# Altium schematic symbol library Schlib.SchLib: 49 symbols
Pins are listed as number, name and electrical type; pins without a type are passive.

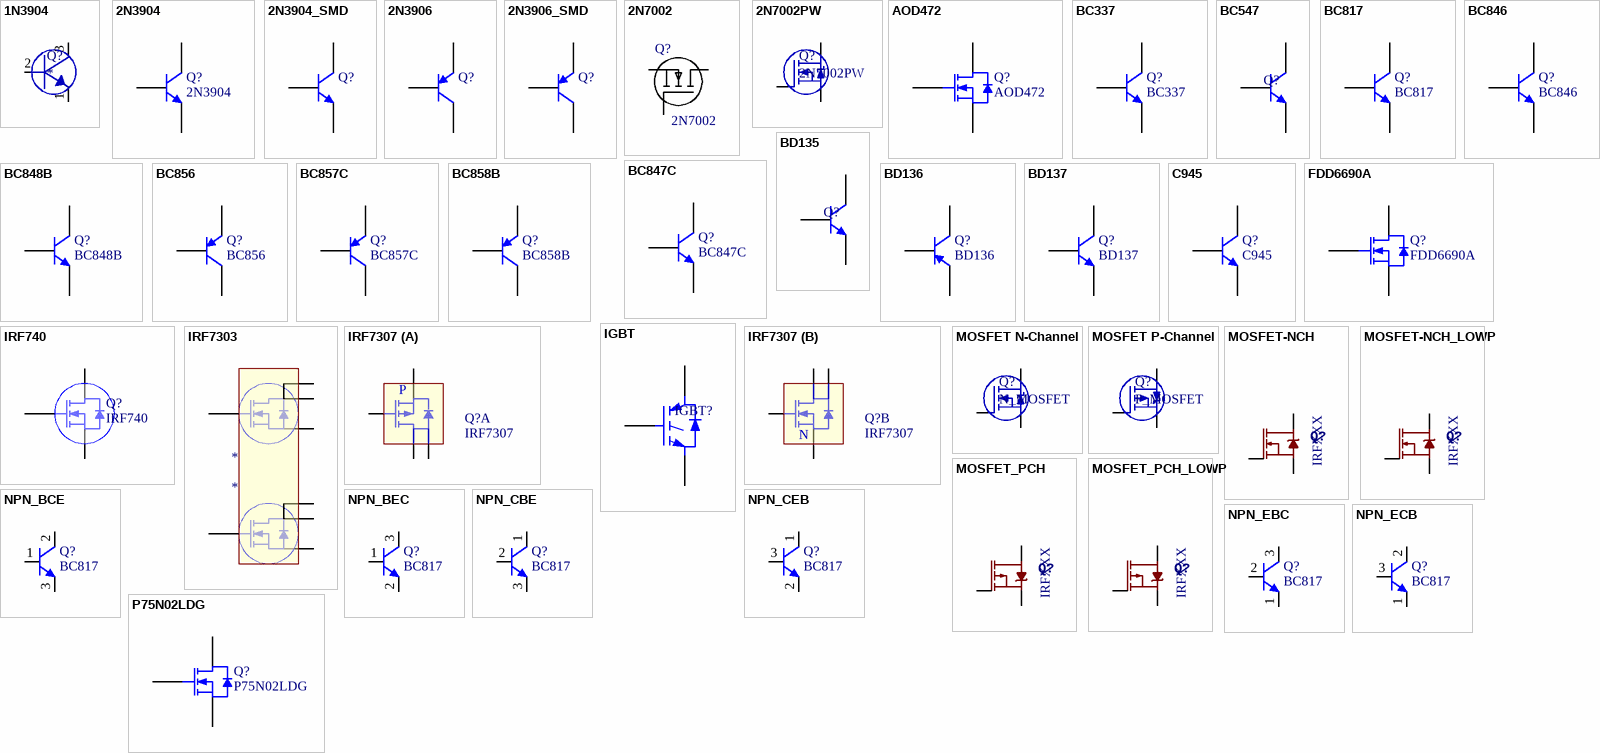
[diagram p0: symbols 1N3904 to P75N02LDG]

## 1N3904
designator Q?
1N3904 NPN Transistor
footprint TO92-2.54 (TO92, 2.54 pitch)
pins: 1, 2, 3

## 2N3904
designator Q?
NPN General Purpose Amplifier
footprint _TO92
pins: 1 E, 2 B, 3 C

## 2N3904_SMD
designator Q?
NPN General Purpose Amplifier
footprint _SOT23 (SOT23, 3-Leads, Body 2.9x1.3mm, Pitch 0.95mm, Lead Span 2.3mm - Reverse Pinning, IPC Medium Density)
pins: 1 B, 2 E, 3 C

## 2N3906
designator Q?
PNP General Purpose Amplifier
footprint _TO92
pins: 1 E, 2 B, 3 C

## 2N3906_SMD
designator Q?
PNP General Purpose Amplifier
footprint _SOT23 (SOT23, 3-Leads, Body 2.9x1.3mm, Pitch 0.95mm, Lead Span 2.3mm - Reverse Pinning, IPC Medium Density)
pins: 1 B, 2 E, 3 C

## 2N7002
designator Q?
N CHANNEL MOSFET 2N7002 SOT23; Manufacturer: Fairchild Semiconductor; Drain to Source Voltage (Vdss): 60V; Vgs(th) (Max) @ Id: 2.5V @ 250µA; Power - Max: 200mW; Current - Continuous Drain (Id) @ 25° C: 115mA; Rds On (Max) @ Id, Vgs: 7.5 Ohm @ 500mA, 10V; FET Type: MOSFET N-Channel, Metal Oxide; FET Feature: Logic Level Gate; Input Capacitance (Ciss) @ Vds: 50pF @ 25V; Reel: Q2; Supplier 1: Digi-Key; Supplier Part Number 1: 2N7002NTR-ND; Package / Case: SOT-23-3, TO-236-3, Micro3™, SSD3, SST3; RoHS: RoHS Compliant; Mounting Type: Surface Mount; Packaging: Tape & Reel (TR); Gate Charge (Qg) @ Vgs: -; Supplier Part Number: 2N7002NTR-ND; Supplier: Digi-Key; Category: Discrete Semiconductor Products; Manufacturer Part Number: 2N7002
footprint SOT23-GDS
pins: D, G, S

## 2N7002PW
designator Q?
MOSFET 60V 0.3A N-CHANNEL TRENCH MOSFET; Manufacturer: NXP Semiconductors; Manufacturer Part Number: 2N7002PW,115; Configuration: Single; Continuous Drain Current: 310 mA; Rds On: 1 Ohms; Fall Time: 4 ns; Pd - Power Dissipation: 260 mW; Qg - Gate Charge: 0.6 nC; Typical Turn-Off Delay Time: 10 ns; Vgs - Gate-Source Breakdown Voltage: 20 V; Supplier 1: Mouser; RoHS: RoHS Compliant; Category: MOSFET; Stock 1: 55183; Pricing 1: 1=0.256, 10=0.170, 100=0.071, 1000=0.049, 3000=0.037, 9000=0.031, 24000=0.030, 45000=0.027, 99000=0.024 (EUR); Package/Case: SOT-323; Packaging: Reel; Brand: NXP Semiconductors; Drain-Source Breakdown Voltage: 60 V; Mounting Style: SMD/SMT; Transistor Polarity: N-Channel; Maximum Operating Temperature: + 150 C; Minimum Operating Temperature: - 55 C; Rise Time: 4 ns; Standard Pack Qty: 3000; RoHS - Mouser: Y; Minimum Order Quantity: 1; Reeling: True; ComponentLink1URL: http://www.mouser.com/ds/2/302/2N7002PW-99426.pdf; ComponentLink1Description: http://www.mouser.com/ds/2/302/2N7002PW-99426.pdf; Supplier Part Number 1: 771-2N7002PW-115
footprint SOT323 (SOT323, 3 pins)
pins: 1 G, 2 S, 3 D

## AOD472
designator Q?
N-channel MOSFET; Note: Pin 2 is trimmed (and not drawn) and is electrically connected to Drain; Published: 2017-1-12; DatasheetVersion: 2017-1-12; PackageVersion: 2017-1-12; PackageReference: D-PAK TO-252; Publisher: Abbas Basereh; PackageDescription: D-PAK TO-252; ComponentLink1Description: Manufacturer Link; ComponentLink2Description: Datasheet; ComponentLink2URL: http://www.roboeq.ir/files/id/2912/name/aod472.pdf/
footprint TO252-3L (D-PAK, 3-Pads, Body 6.2x6.7mm (max), IPC High Density)
footprint TO252-3M (D-PAK, 3-Pads, Body 6.2x6.7mm (max), IPC Low Density)
footprint TO252-3N (D-PAK, 3-Pads, Body 6.2x6.7mm (max), IPC Medium Density)
pins: 1 G, 3 S, 4 D

## BC337
designator Q?
45 V, 500 mA NPN general-purpose transistors; Published: 2017-2-8; LatestRevisionDate: 2017; LatestRevisionNote: IPC-7351 Footprint Added.; DatasheetVersion: 2017; PackageVersion: 2017-2-8; PackageReference: SOT23; Publisher: Abbas Basereh; PackageDescription: 3-Pin SOT-23 Package 0.95 mm Pitch, 2.3 mm Lead Span; ComponentLink1Description: Manufacturer Link; ComponentLink1URL: http://www.nxp.com/; ComponentLink2Description: Datasheet; ComponentLink2URL: http://www.nxp.com/
footprint SOT23_N (SOT23, 3-Leads, Body 2.9x1.3mm, Pitch 0.95mm, Lead Span 2.3mm, IPC Medium Density)
footprint SOT23_L (SOT23, 3-Leads, Body 2.9x1.3mm, Pitch 0.95mm, Lead Span 2.3mm, IPC High Density)
footprint SOT23_M (SOT23, 3-Leads, Body 2.9x1.3mm, Pitch 0.95mm, Lead Span 2.3mm, IPC Low Density)
pins: 1 B, 2 E, 3 C

## BC547
designator Q?  (value not drawn)
NPN Transistor; Designer: Abbas Basereh; Desc.: Plastic Medium-Power. Silicon NPN Transistors; Data: 27-12-2016
footprint TO-92 BENT (DESIGNER :ABBAS BASEREH)
footprint TO-92 STR (DESIGNER :ABBAS BASEREH)
footprint TO-92 CF (DESIGNER :ABBAS BASEREH)
pins: 1 C, 2 B, 3 E
1 alternate drawing of the same symbol

## BC817
designator Q?
45 V, 500 mA NPN general-purpose transistors; Published: 2017-2-8; LatestRevisionDate: 2017; LatestRevisionNote: IPC-7351 Footprint Added.; DatasheetVersion: 2017; PackageVersion: 2017-2-8; PackageReference: SOT23; Publisher: Abbas Basereh; PackageDescription: 3-Pin SOT-23 Package 0.95 mm Pitch, 2.3 mm Lead Span; ComponentLink1Description: Manufacturer Link; ComponentLink1URL: http://www.nxp.com/; ComponentLink2Description: Datasheet; ComponentLink2URL: http://www.nxp.com/
footprint SOT23_N (SOT23, 3-Leads, Body 2.9x1.3mm, Pitch 0.95mm, Lead Span 2.3mm, IPC Medium Density)
footprint SOT23_L (SOT23, 3-Leads, Body 2.9x1.3mm, Pitch 0.95mm, Lead Span 2.3mm, IPC High Density)
footprint SOT23_M (SOT23, 3-Leads, Body 2.9x1.3mm, Pitch 0.95mm, Lead Span 2.3mm, IPC Low Density)
pins: 1 B, 2 E, 3 C

## BC846
designator Q?
NPN General-purpose Transistor; Published: 2017-1-6; LatestRevisionDate: 12-Dec-2006; LatestRevisionNote: IPC-7351 Footprint Added.; DatasheetVersion: 4-Feb-2002; PackageVersion: 2017-1-6; PackageReference: SOT23; Publisher: Abbas Basereh; PackageDescription: 3-Pin SOT-23 Package 0.95 mm Pitch, 2.3 mm Lead Span; ComponentLink1Description: Manufacturer Link; ComponentLink1URL: http://www.semiconductors.philips.com/; ComponentLink2Description: Datasheet; ComponentLink2URL: http://www.semiconductors.philips.com/acrobat/datasheets/BC846_BC847_BC848_5.pdf
footprint SOT23_N (SOT23, 3-Leads, Body 2.9x1.3mm, Pitch 0.95mm, Lead Span 2.3mm, IPC Medium Density)
footprint SOT23_L (SOT23, 3-Leads, Body 2.9x1.3mm, Pitch 0.95mm, Lead Span 2.3mm, IPC High Density)
footprint SOT23_M (SOT23, 3-Leads, Body 2.9x1.3mm, Pitch 0.95mm, Lead Span 2.3mm, IPC Low Density)
simulation model QBC846 (NPN)
signal-integrity model BC846
pins: 1 B, 2 E, 3 C

## BC847C
designator Q?
NPN General-purpose Transistor; Published: 2017-1-6; LatestRevisionDate: 12-Dec-2006; LatestRevisionNote: IPC-7351 Footprint Added.; DatasheetVersion: 4-Feb-2002; PackageVersion: 2017-1-6; PackageReference: SOT23; Publisher: Abbas Basereh; PackageDescription: 3-Pin SOT-23 Package 0.95 mm Pitch, 2.3 mm Lead Span; ComponentLink1Description: Manufacturer Link; ComponentLink1URL: http://www.semiconductors.philips.com/; ComponentLink2Description: Datasheet; ComponentLink2URL: http://www.semiconductors.philips.com/acrobat/datasheets/BC846_BC847_BC848_5.pdf
footprint SOT23_N (SOT23, 3-Leads, Body 2.9x1.3mm, Pitch 0.95mm, Lead Span 2.3mm, IPC Medium Density)
footprint SOT23_L (SOT23, 3-Leads, Body 2.9x1.3mm, Pitch 0.95mm, Lead Span 2.3mm, IPC High Density)
footprint SOT23_M (SOT23, 3-Leads, Body 2.9x1.3mm, Pitch 0.95mm, Lead Span 2.3mm, IPC Low Density)
simulation model QBC847C (NPN)
signal-integrity model BC847C
pins: 1 B, 2 E, 3 C

## BC848B
designator Q?
NPN General-purpose Transistor; Published: 2017-1-6; LatestRevisionDate: 12-Dec-2006; LatestRevisionNote: IPC-7351 Footprint Added.; DatasheetVersion: 4-Feb-2002; PackageVersion: 2017-1-6; PackageReference: SOT23; Publisher: Abbas Basereh; PackageDescription: 3-Pin SOT-23 Package 0.95 mm Pitch, 2.3 mm Lead Span; ComponentLink1Description: Manufacturer Link; ComponentLink1URL: http://www.semiconductors.philips.com/; ComponentLink2Description: Datasheet; ComponentLink2URL: http://www.semiconductors.philips.com/acrobat/datasheets/BC846_BC847_BC848_5.pdf
footprint SOT23_N (SOT23, 3-Leads, Body 2.9x1.3mm, Pitch 0.95mm, Lead Span 2.3mm, IPC Medium Density)
footprint SOT23_L (SOT23, 3-Leads, Body 2.9x1.3mm, Pitch 0.95mm, Lead Span 2.3mm, IPC High Density)
footprint SOT23_M (SOT23, 3-Leads, Body 2.9x1.3mm, Pitch 0.95mm, Lead Span 2.3mm, IPC Low Density)
simulation model QBC848B (NPN)
signal-integrity model BC848B
pins: 1 B, 2 E, 3 C

## BC856
designator Q?
PNP General-purpose Transistor; Published: 2017-1-6; LatestRevisionDate: 12-Dec-2006; LatestRevisionNote: IPC-7351 Footprint Added.; DatasheetVersion: 4-Feb-2002; PackageVersion: 2017-1-6; PackageReference: SOT23; Publisher: Abbas Basereh; PackageDescription: 3-Pin SOT-23 Package 0.95 mm Pitch, 2.3 mm Lead Span; ComponentLink1Description: Manufacturer Link; ComponentLink1URL: http://www.semiconductors.philips.com/; ComponentLink2Description: Datasheet; ComponentLink2URL: http://www.semiconductors.philips.com/acrobat/datasheets/BC856_BC857_BC858_6.pdf
footprint SOT23_N (SOT23, 3-Leads, Body 2.9x1.3mm, Pitch 0.95mm, Lead Span 2.3mm, IPC Medium Density)
footprint SOT23_L (SOT23, 3-Leads, Body 2.9x1.3mm, Pitch 0.95mm, Lead Span 2.3mm, IPC High Density)
footprint SOT23_M (SOT23, 3-Leads, Body 2.9x1.3mm, Pitch 0.95mm, Lead Span 2.3mm, IPC Low Density)
simulation model QBC856 (PNP)
signal-integrity model BC856
pins: 1 B, 2 E, 3 C

## BC857C
designator Q?
PNP General-purpose Transistor; Published: 2017-1-6; LatestRevisionDate: 12-Dec-2006; LatestRevisionNote: IPC-7351 Footprint Added.; DatasheetVersion: 4-Feb-2002; PackageVersion: 2017-1-6; PackageReference: SOT23; Publisher: Abbas Basereh; PackageDescription: 3-Pin SOT-23 Package 0.95 mm Pitch, 2.3 mm Lead Span; ComponentLink1Description: Manufacturer Link; ComponentLink1URL: http://www.semiconductors.philips.com/; ComponentLink2Description: Datasheet; ComponentLink2URL: http://www.semiconductors.philips.com/acrobat/datasheets/BC856_BC857_BC858_6.pdf
footprint SOT23_N (SOT23, 3-Leads, Body 2.9x1.3mm, Pitch 0.95mm, Lead Span 2.3mm, IPC Medium Density)
footprint SOT23_L (SOT23, 3-Leads, Body 2.9x1.3mm, Pitch 0.95mm, Lead Span 2.3mm, IPC High Density)
footprint SOT23_M (SOT23, 3-Leads, Body 2.9x1.3mm, Pitch 0.95mm, Lead Span 2.3mm, IPC Low Density)
simulation model QBC857C (PNP)
signal-integrity model BC857C
pins: 1 B, 2 E, 3 C

## BC858B
designator Q?
PNP General-purpose Transistor; Published: 2017-1-6; LatestRevisionDate: 12-Dec-2006; LatestRevisionNote: IPC-7351 Footprint Added.; DatasheetVersion: 4-Feb-2002; PackageVersion: 2017-1-6; PackageReference: SOT23; Publisher: Abbas Basereh; PackageDescription: 3-Pin SOT-23 Package 0.95 mm Pitch, 2.3 mm Lead Span; ComponentLink1Description: Manufacturer Link; ComponentLink1URL: http://www.semiconductors.philips.com/; ComponentLink2Description: Datasheet; ComponentLink2URL: http://www.semiconductors.philips.com/acrobat/datasheets/BC856_BC857_BC858_6.pdf
footprint SOT23_N (SOT23, 3-Leads, Body 2.9x1.3mm, Pitch 0.95mm, Lead Span 2.3mm, IPC Medium Density)
footprint SOT23_L (SOT23, 3-Leads, Body 2.9x1.3mm, Pitch 0.95mm, Lead Span 2.3mm, IPC High Density)
footprint SOT23_M (SOT23, 3-Leads, Body 2.9x1.3mm, Pitch 0.95mm, Lead Span 2.3mm, IPC Low Density)
pins: 1 B, 2 E, 3 C

## BD135
designator Q?  (value not drawn)
NPN Transistor; Designer: Abbas Basereh; Desc.: Plastic Medium-Power. Silicon NPN Transistors; Data: 16-12-2016
footprint TO-126 (SOT32) Gold PCB
footprint TO-126 (SOT32) Gold PCB With HatSink (-Design:Abbas Basereh)
pins: 1 E, 2 C, 3 B
1 alternate drawing of the same symbol

## BD136
designator Q?
Darlington transistor
footprint My_TO126
pins: B, C, E

## BD137
designator Q?
Darlington transistor
footprint My_TO126
pins: B, C, E

## C945
designator Q?
NPN Silicon Epitaxial Planar Transistor; Published: 2017-2-8; LatestRevisionDate: 2017; LatestRevisionNote: IPC-7351 Footprint Added.; DatasheetVersion: 2017; PackageVersion: 2017-2-8; PackageReference: SOT23; Publisher: Abbas Basereh; PackageDescription: 3-Pin SOT-23 Package 0.95 mm Pitch, 2.3 mm Lead Span; ComponentLink1Description: Manufacturer Link; ComponentLink1URL: http://www.taitroncomponents.com/; ComponentLink2Description: Datasheet; ComponentLink2URL: http://www.taitroncomponents.com/
footprint SOT23_N (SOT23, 3-Leads, Body 2.9x1.3mm, Pitch 0.95mm, Lead Span 2.3mm, IPC Medium Density)
footprint SOT23_L (SOT23, 3-Leads, Body 2.9x1.3mm, Pitch 0.95mm, Lead Span 2.3mm, IPC High Density)
footprint SOT23_M (SOT23, 3-Leads, Body 2.9x1.3mm, Pitch 0.95mm, Lead Span 2.3mm, IPC Low Density)
pins: 1 B, 2 E, 3 C

## FDD6690A
designator Q?
N-channel MOSFET; Note: Pin 2 is trimmed (and not drawn) and is electrically connected to Drain; Published: 2017-1-6; DatasheetVersion: 2017-1-6; PackageVersion: 2017-1-6; PackageReference: D-PAK TO-252; Publisher: Abbas Basereh; PackageDescription: D-PAK TO-252; ComponentLink1Description: Manufacturer Link; ComponentLink2Description: Datasheet; ComponentLink2URL: http://www.roboeq.ir/files/id/2900/name/FDD6690.pdf/
footprint TO252-3L (D-PAK, 3-Pads, Body 6.2x6.7mm (max), IPC High Density)
footprint TO252-3M (D-PAK, 3-Pads, Body 6.2x6.7mm (max), IPC Low Density)
footprint TO252-3N (D-PAK, 3-Pads, Body 6.2x6.7mm (max), IPC Medium Density)
pins: 1 G, 3 S, 4 D

## IGBT
designator IGBT?
footprint _TO3P
pins: 1 G, 2 C, 3 E

## IRF740
designator Q?
MOSFET N-CH 400V 10A TO-220AB; Published: 2017-1-12; DatasheetVersion: 2017-1-12; PackageVersion: 2017-1-12; PackageReference: TO-220AB; Publisher: Abbas Basereh; PackageDescription: MOSFET N-CH 400V 10A TO-220AB; ComponentLink1Description: http://www.digikey.com/products/en/discrete-semiconductor-products/19; ComponentLink1URL: http://www.digikey.com/product-detail/en/vishay-siliconix/IRF740PBF/IRF740PBF-ND/812037; ComponentLink2Description: Datasheet; ComponentLink2URL: http://www.roboeq.ir/files/id/1101/name/IRF740A.pdf
footprint TO-220 AB (Epoxy meets UL94, V0-Design:Abbas Basereh)
footprint TO-220 AB S (Epoxy meets UL94, V0-Design:Abbas Basereh)
footprint TO-220 AB WITH HEAT SINK (Epoxy meets UL94, V0-Design:Abbas Basereh)
footprint TO-220 AB WITH HEAT SINK ASM (-Design:Abbas Basereh)
footprint TO-220 AB with heatsink ya25 (Epoxy meets UL94, V0-Design:Abbas Basereh)
pins: 1 G, 2 D (power), 3 S (power)

## IRF7303
designator *
footprint SO-8N (SOIC, 8-Leads, Body 4/89x3/90mm, Pitch 1/27mm, IPC Medium Density designer:abbas basereh)
pins: 1 S1 (power), 2 G1, 3 S2 (power), 4 G2, 5 D2 (power), 6 D2 (power), 7 D1 (power), 8 D1 (power)

## IRF7307
designator Q?
Dual N and P Channel Mosfet; Published: 2017-2-27; DatasheetVersion: 2017-2-27; PackageVersion: 2017-2-27; PackageReference: SO-8N; Publisher: Abbas Basereh; PackageDescription: SOIC, 8-Leads, Body 4/89x3/90mm, Pitch 1/27mm, IPC Medium Density designer:abbas basereh; ComponentLink1Description: Manufacturer Link; ComponentLink1URL: http://www.irf.com/; ComponentLink2Description: Dual N and P Channel Mosfet; ComponentLink2URL: http://www.roboeq.ir/files/id/2730/name/irf7307.pdf/
footprint SO-8N (SOIC, 8-Leads, Body 4/89x3/90mm, Pitch 1/27mm, IPC Medium Density designer:abbas basereh)
part A pins: 3 S2, 4 G2, 5 D2, 6 D2
part B pins: 1 S1, 2 G1, 7 D1, 8 1
part A text: P
part B text: N

## MOSFET N-Channel
designator Q?, comment N_MOSFET
Generic N-Channel MOSFET
footprint SOT323 (SOT323, 3 pins)
pins: 1 G, 2 S, 3 D

## MOSFET P-Channel
designator Q?, comment P_MOSFET
Generic P-Channel MOSFET
footprint SOT323 (SOT323, 3 pins)
pins: 1 G, 2 S, 3 D

## MOSFET-NCH
designator Q?  value IRFXXX  (hidden comment: MOSFET-NCH)
footprint _TO3P
footprint _TO220 (TO, Thru-Hole, Vertical, Heatsink Mounted; 3 In-Line Leads; Pitch 2.54 mm)
footprint _TO220-ALT
footprint _TO252 (D-PAK, 4-Leads, Body 6.1x6.5mm, Pitch 2.28mm, Lead Span 9.7mm, IPC Medium Density)
pins: 1 G, 2 D, 3 S

## MOSFET-NCH_LOWP
designator Q?  value IRFXXX  (hidden comment: MOSFET-NCH_LOWP)
footprint _SOT23 (SOT23, 3-Leads, Body 2.9x1.3mm, Pitch 0.95mm, Lead Span 2.3mm - Reverse Pinning, IPC Medium Density)
pins: 1 G, 2 S, 3 D

## MOSFET_PCH
designator Q?  value IRFXXX  (hidden comment: MOSFET_PCH)
footprint _TO220 (TO, Thru-Hole, Vertical, Heatsink Mounted; 3 In-Line Leads; Pitch 2.54 mm)
footprint _TO220-ALT
footprint _TO3P
footprint _TO252 (D-PAK, 4-Leads, Body 6.1x6.5mm, Pitch 2.28mm, Lead Span 9.7mm, IPC Medium Density)
pins: 1 G, 2 D, 3 S

## MOSFET_PCH_LOWP
designator Q?  value IRFXXX
footprint _SOT23 (SOT23, 3-Leads, Body 2.9x1.3mm, Pitch 0.95mm, Lead Span 2.3mm - Reverse Pinning, IPC Medium Density)
pins: 1 G, 2 S, 3 D

## NPN_BCE
designator Q?, comment BC817
NPN Bipolar Transistor; Designer: Eng. Saeid Jorablo; Company: SJ Libraries; Published: 8-Jun-2000; LatestRevisionDate: 29-May-2009; LatestRevisionNote: IPC-7351 Footprint Added.; PackageVersion: Aug-1999; PackageReference: SOT-23B; Publisher: SJ Unlimited; PackageDescription: 3-Pin SOT-23 Package 0.95 mm Pitch, 2.4 mm Lead Span; ComponentLink1Description: Datasheet; ComponentLink2Description: Reference; Mounting Technology: Surface Mount\Through-Hole; HelpURL: http://s3.picofile.com/file/7443264187/Coming_Soon_logo.gif; Status: Unreleased
footprint SOT23_BEC_L (SOT23, 3-Leads, Body 2.9x1.3mm, Pitch 0.95mm, Lead Span 2.4mm, IPC High Density)
footprint SOT23_BEC_M (SOT23, 3-Leads, Body 2.9x1.3mm, Pitch 0.95mm, Lead Span 2.4mm, IPC Low Density)
footprint SOT23_BEC_N (SOT23, 3-Leads, Body 2.9x1.3mm, Pitch 0.95mm, Lead Span 2.4mm, IPC Medium Density)
signal-integrity model NPN (NPN BJT Transistor)
pins: 1 B, 2 C, 3 E

## NPN_BEC
designator Q?, comment BC817
NPN Bipolar Transistor; Designer: Eng. Saeid Jorablo; Company: SJ Libraries; Published: 8-Jun-2000; LatestRevisionDate: 29-May-2009; LatestRevisionNote: IPC-7351 Footprint Added.; PackageVersion: Aug-1999; PackageReference: SOT-23B; Publisher: SJ Unlimited; PackageDescription: 3-Pin SOT-23 Package 0.95 mm Pitch, 2.4 mm Lead Span; ComponentLink1Description: Datasheet; ComponentLink2Description: Reference; Mounting Technology: Surface Mount\Through-Hole; HelpURL: http://s3.picofile.com/file/7443264187/Coming_Soon_logo.gif; Status: Unreleased
footprint SOT23_BEC_L (SOT23, 3-Leads, Body 2.9x1.3mm, Pitch 0.95mm, Lead Span 2.4mm, IPC High Density)
footprint SOT23_BEC_M (SOT23, 3-Leads, Body 2.9x1.3mm, Pitch 0.95mm, Lead Span 2.4mm, IPC Low Density)
footprint SOT23_BEC_N (SOT23, 3-Leads, Body 2.9x1.3mm, Pitch 0.95mm, Lead Span 2.4mm, IPC Medium Density)
signal-integrity model NPN (NPN BJT Transistor)
pins: 1 B, 2 E, 3 C

## NPN_CBE
designator Q?, comment BC817
NPN Bipolar Transistor; Designer: Eng. Saeid Jorablo; Company: SJ Libraries; Published: 8-Jun-2000; LatestRevisionDate: 29-May-2009; LatestRevisionNote: IPC-7351 Footprint Added.; PackageVersion: Aug-1999; PackageReference: SOT-23B; Publisher: SJ Unlimited; PackageDescription: 3-Pin SOT-23 Package 0.95 mm Pitch, 2.4 mm Lead Span; ComponentLink1Description: Datasheet; ComponentLink2Description: Reference; Mounting Technology: Surface Mount\Through-Hole; HelpURL: http://s3.picofile.com/file/7443264187/Coming_Soon_logo.gif; Status: Unreleased
footprint SOT23_BEC_L (SOT23, 3-Leads, Body 2.9x1.3mm, Pitch 0.95mm, Lead Span 2.4mm, IPC High Density)
footprint SOT23_BEC_M (SOT23, 3-Leads, Body 2.9x1.3mm, Pitch 0.95mm, Lead Span 2.4mm, IPC Low Density)
footprint SOT23_BEC_N (SOT23, 3-Leads, Body 2.9x1.3mm, Pitch 0.95mm, Lead Span 2.4mm, IPC Medium Density)
signal-integrity model NPN (NPN BJT Transistor)
pins: 1 C, 2 B, 3 E

## NPN_CEB
designator Q?, comment BC817
NPN Bipolar Transistor; Designer: Eng. Saeid Jorablo; Company: SJ Libraries; Published: 8-Jun-2000; LatestRevisionDate: 29-May-2009; LatestRevisionNote: IPC-7351 Footprint Added.; PackageVersion: Aug-1999; PackageReference: SOT-23B; Publisher: SJ Unlimited; PackageDescription: 3-Pin SOT-23 Package 0.95 mm Pitch, 2.4 mm Lead Span; ComponentLink1Description: Datasheet; ComponentLink2Description: Reference; Mounting Technology: Surface Mount\Through-Hole; HelpURL: http://s3.picofile.com/file/7443264187/Coming_Soon_logo.gif; Status: Unreleased
footprint SOT23_BEC_L (SOT23, 3-Leads, Body 2.9x1.3mm, Pitch 0.95mm, Lead Span 2.4mm, IPC High Density)
footprint SOT23_BEC_M (SOT23, 3-Leads, Body 2.9x1.3mm, Pitch 0.95mm, Lead Span 2.4mm, IPC Low Density)
footprint SOT23_BEC_N (SOT23, 3-Leads, Body 2.9x1.3mm, Pitch 0.95mm, Lead Span 2.4mm, IPC Medium Density)
signal-integrity model NPN (NPN BJT Transistor)
pins: 1 C, 2 E, 3 B

## NPN_EBC
designator Q?, comment BC817
NPN Bipolar Transistor; Designer: Eng. Saeid Jorablo; Company: SJ Libraries; Published: 8-Jun-2000; LatestRevisionDate: 29-May-2009; LatestRevisionNote: IPC-7351 Footprint Added.; PackageVersion: Aug-1999; PackageReference: SOT-23B; Publisher: SJ Unlimited; PackageDescription: 3-Pin SOT-23 Package 0.95 mm Pitch, 2.4 mm Lead Span; ComponentLink1Description: Datasheet; ComponentLink2Description: Reference; Mounting Technology: Surface Mount\Through-Hole; HelpURL: http://s3.picofile.com/file/7443264187/Coming_Soon_logo.gif; Status: Unreleased
footprint SOT23_BEC_L (SOT23, 3-Leads, Body 2.9x1.3mm, Pitch 0.95mm, Lead Span 2.4mm, IPC High Density)
footprint SOT23_BEC_M (SOT23, 3-Leads, Body 2.9x1.3mm, Pitch 0.95mm, Lead Span 2.4mm, IPC Low Density)
footprint SOT23_BEC_N (SOT23, 3-Leads, Body 2.9x1.3mm, Pitch 0.95mm, Lead Span 2.4mm, IPC Medium Density)
signal-integrity model NPN (NPN BJT Transistor)
pins: 1 E, 2 B, 3 C

## NPN_ECB
designator Q?, comment BC817
NPN Bipolar Transistor; Designer: Eng. Saeid Jorablo; Company: SJ Libraries; Published: 8-Jun-2000; LatestRevisionDate: 29-May-2009; LatestRevisionNote: IPC-7351 Footprint Added.; PackageVersion: Aug-1999; PackageReference: SOT-23B; Publisher: SJ Unlimited; PackageDescription: 3-Pin SOT-23 Package 0.95 mm Pitch, 2.4 mm Lead Span; ComponentLink1Description: Datasheet; ComponentLink2Description: Reference; Mounting Technology: Surface Mount\Through-Hole; HelpURL: http://s3.picofile.com/file/7443264187/Coming_Soon_logo.gif; Status: Unreleased
footprint SOT23_BEC_L (SOT23, 3-Leads, Body 2.9x1.3mm, Pitch 0.95mm, Lead Span 2.4mm, IPC High Density)
footprint SOT23_BEC_M (SOT23, 3-Leads, Body 2.9x1.3mm, Pitch 0.95mm, Lead Span 2.4mm, IPC Low Density)
footprint SOT23_BEC_N (SOT23, 3-Leads, Body 2.9x1.3mm, Pitch 0.95mm, Lead Span 2.4mm, IPC Medium Density)
signal-integrity model NPN (NPN BJT Transistor)
pins: 1 E, 2 C, 3 B

## P75N02LDG
designator Q?
N-channel MOSFET; Note: Pin 2 is trimmed (and not drawn) and is electrically connected to Drain; Published: 2017-1-12; DatasheetVersion: 2017-1-12; PackageVersion: 2017-1-12; PackageReference: D-PAK TO-252; Publisher: Abbas Basereh; PackageDescription: D-PAK TO-252; ComponentLink1Description: Manufacturer Link; ComponentLink2Description: Datasheet; ComponentLink2URL: http://www.roboeq.ir/files/id/2793/name/p75n02ldg.pdf/
footprint TO252-3L (D-PAK, 3-Pads, Body 6.2x6.7mm (max), IPC High Density)
footprint TO252-3M (D-PAK, 3-Pads, Body 6.2x6.7mm (max), IPC Low Density)
footprint TO252-3N (D-PAK, 3-Pads, Body 6.2x6.7mm (max), IPC Medium Density)
pins: 1 G, 3 S, 4 D

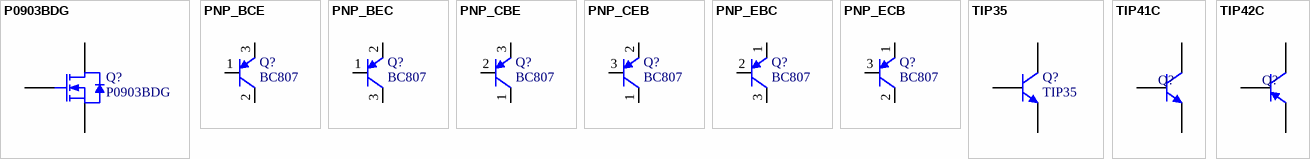
[diagram p1: symbols P0903BDG to TIP42C]

## P0903BDG
designator Q?
N-channel MOSFET; Note: Pin 2 is trimmed (and not drawn) and is electrically connected to Drain; Published: 2017-1-12; DatasheetVersion: 2017-1-12; PackageVersion: 2017-1-12; PackageReference: D-PAK TO-252; Publisher: Abbas Basereh; PackageDescription: D-PAK TO-252; ComponentLink1Description: Manufacturer Link; ComponentLink2Description: Datasheet; ComponentLink2URL: http://www.roboeq.ir/files/id/2909/name/P0903BDG.pdf/
footprint TO252-3L (D-PAK, 3-Pads, Body 6.2x6.7mm (max), IPC High Density)
footprint TO252-3M (D-PAK, 3-Pads, Body 6.2x6.7mm (max), IPC Low Density)
footprint TO252-3N (D-PAK, 3-Pads, Body 6.2x6.7mm (max), IPC Medium Density)
pins: 1 G, 3 S, 4 D

## PNP_BCE
designator Q?, comment BC807
PNP Bipolar Transistor; Designer: Eng. Saeid Jorablo; Company: SJ Libraries; Published: 8-Jun-2000; LatestRevisionDate: 29-May-2009; LatestRevisionNote: IPC-7351 Footprint Added.; PackageVersion: Aug-1999; PackageReference: SOT-23B; Publisher: SJ Unlimited; PackageDescription: 3-Pin SOT-23 Package 0.95 mm Pitch, 2.4 mm Lead Span; ComponentLink1Description: Datasheet; ComponentLink2Description: Reference; Mounting Technology: Surface Mount\Through-Hole; HelpURL: http://s3.picofile.com/file/7443264187/Coming_Soon_logo.gif; Status: Unreleased
signal-integrity model PNP
footprint SOT23_BEC_N (SOT23, 3-Leads, Body 2.9x1.3mm, Pitch 0.95mm, Lead Span 2.4mm, IPC Medium Density)
footprint SOT23_BEC_M (SOT23, 3-Leads, Body 2.9x1.3mm, Pitch 0.95mm, Lead Span 2.4mm, IPC Low Density)
footprint SOT23_BEC_L (SOT23, 3-Leads, Body 2.9x1.3mm, Pitch 0.95mm, Lead Span 2.4mm, IPC High Density)
pins: 1 B, 2 C, 3 E

## PNP_BEC
designator Q?, comment BC807
PNP Bipolar Transistor; Designer: Eng. Saeid Jorablo; Company: SJ Libraries; Published: 8-Jun-2000; LatestRevisionDate: 29-May-2009; LatestRevisionNote: IPC-7351 Footprint Added.; PackageVersion: Aug-1999; PackageReference: SOT-23B; Publisher: SJ Unlimited; PackageDescription: 3-Pin SOT-23 Package 0.95 mm Pitch, 2.4 mm Lead Span; ComponentLink1Description: Datasheet; ComponentLink2Description: Reference; Mounting Technology: Surface Mount\Through-Hole; HelpURL: http://s3.picofile.com/file/7443264187/Coming_Soon_logo.gif; Status: Unreleased
footprint SOT23_BEC_N (SOT23, 3-Leads, Body 2.9x1.3mm, Pitch 0.95mm, Lead Span 2.4mm, IPC Medium Density)
footprint SOT23_BEC_M (SOT23, 3-Leads, Body 2.9x1.3mm, Pitch 0.95mm, Lead Span 2.4mm, IPC Low Density)
footprint SOT23_BEC_L (SOT23, 3-Leads, Body 2.9x1.3mm, Pitch 0.95mm, Lead Span 2.4mm, IPC High Density)
pins: 1 B, 2 E, 3 C

## PNP_CBE
designator Q?, comment BC807
PNP Bipolar Transistor; Designer: Eng. Saeid Jorablo; Company: SJ Libraries; Published: 8-Jun-2000; LatestRevisionDate: 29-May-2009; LatestRevisionNote: IPC-7351 Footprint Added.; PackageVersion: Aug-1999; PackageReference: SOT-23B; Publisher: SJ Unlimited; PackageDescription: 3-Pin SOT-23 Package 0.95 mm Pitch, 2.4 mm Lead Span; ComponentLink1Description: Datasheet; ComponentLink2Description: Reference; Mounting Technology: Surface Mount\Through-Hole; HelpURL: http://s3.picofile.com/file/7443264187/Coming_Soon_logo.gif; Status: Unreleased
signal-integrity model PNP
footprint SOT23_BEC_N (SOT23, 3-Leads, Body 2.9x1.3mm, Pitch 0.95mm, Lead Span 2.4mm, IPC Medium Density)
footprint SOT23_BEC_M (SOT23, 3-Leads, Body 2.9x1.3mm, Pitch 0.95mm, Lead Span 2.4mm, IPC Low Density)
footprint SOT23_BEC_L (SOT23, 3-Leads, Body 2.9x1.3mm, Pitch 0.95mm, Lead Span 2.4mm, IPC High Density)
pins: 1 C, 2 B, 3 E

## PNP_CEB
designator Q?, comment BC807
PNP Bipolar Transistor; Designer: Eng. Saeid Jorablo; Company: SJ Libraries; Published: 8-Jun-2000; LatestRevisionDate: 29-May-2009; LatestRevisionNote: IPC-7351 Footprint Added.; PackageVersion: Aug-1999; PackageReference: SOT-23B; Publisher: SJ Unlimited; PackageDescription: 3-Pin SOT-23 Package 0.95 mm Pitch, 2.4 mm Lead Span; ComponentLink1Description: Datasheet; ComponentLink2Description: Reference; Mounting Technology: Surface Mount\Through-Hole; HelpURL: http://s3.picofile.com/file/7443264187/Coming_Soon_logo.gif; Status: Unreleased
signal-integrity model PNP
footprint SOT23_BEC_N (SOT23, 3-Leads, Body 2.9x1.3mm, Pitch 0.95mm, Lead Span 2.4mm, IPC Medium Density)
footprint SOT23_BEC_M (SOT23, 3-Leads, Body 2.9x1.3mm, Pitch 0.95mm, Lead Span 2.4mm, IPC Low Density)
footprint SOT23_BEC_L (SOT23, 3-Leads, Body 2.9x1.3mm, Pitch 0.95mm, Lead Span 2.4mm, IPC High Density)
pins: 1 C, 2 E, 3 B

## PNP_EBC
designator Q?, comment BC807
PNP Bipolar Transistor; Designer: Eng. Saeid Jorablo; Company: SJ Libraries; Published: 8-Jun-2000; LatestRevisionDate: 29-May-2009; LatestRevisionNote: IPC-7351 Footprint Added.; PackageVersion: Aug-1999; PackageReference: SOT-23B; Publisher: SJ Unlimited; PackageDescription: 3-Pin SOT-23 Package 0.95 mm Pitch, 2.4 mm Lead Span; ComponentLink1Description: Datasheet; ComponentLink2Description: Reference; Mounting Technology: Surface Mount\Through-Hole; HelpURL: http://s3.picofile.com/file/7443264187/Coming_Soon_logo.gif; Status: Unreleased
signal-integrity model PNP
footprint SOT23_BEC_N (SOT23, 3-Leads, Body 2.9x1.3mm, Pitch 0.95mm, Lead Span 2.4mm, IPC Medium Density)
footprint SOT23_BEC_M (SOT23, 3-Leads, Body 2.9x1.3mm, Pitch 0.95mm, Lead Span 2.4mm, IPC Low Density)
footprint SOT23_BEC_L (SOT23, 3-Leads, Body 2.9x1.3mm, Pitch 0.95mm, Lead Span 2.4mm, IPC High Density)
pins: 1 E, 2 B, 3 C

## PNP_ECB
designator Q?, comment BC807
PNP Bipolar Transistor; Designer: Eng. Saeid Jorablo; Company: SJ Libraries; Published: 8-Jun-2000; LatestRevisionDate: 29-May-2009; LatestRevisionNote: IPC-7351 Footprint Added.; PackageVersion: Aug-1999; PackageReference: SOT-23B; Publisher: SJ Unlimited; PackageDescription: 3-Pin SOT-23 Package 0.95 mm Pitch, 2.4 mm Lead Span; ComponentLink1Description: Datasheet; ComponentLink2Description: Reference; Mounting Technology: Surface Mount\Through-Hole; HelpURL: http://s3.picofile.com/file/7443264187/Coming_Soon_logo.gif; Status: Unreleased
signal-integrity model PNP
footprint SOT23_BEC_N (SOT23, 3-Leads, Body 2.9x1.3mm, Pitch 0.95mm, Lead Span 2.4mm, IPC Medium Density)
footprint SOT23_BEC_M (SOT23, 3-Leads, Body 2.9x1.3mm, Pitch 0.95mm, Lead Span 2.4mm, IPC Low Density)
footprint SOT23_BEC_L (SOT23, 3-Leads, Body 2.9x1.3mm, Pitch 0.95mm, Lead Span 2.4mm, IPC High Density)
pins: 1 E, 2 C, 3 B

## TIP35
designator Q?
power npn transistor
footprint My_TOP3
pins: B, C, E

## TIP41C
designator Q?  (value not drawn)
NPN  power transistor; Manufacturer: STMicroelectronics; Designer: Abbas Basereh; DESC.: Complementary power transistors; Link: https://www.aliexpress.com/item/; Link: http://www.tme.eu/en/; Link: http://www.digikey.com/; Part. No: TIP41C
footprint TO-220 AB WITH HEAT SINK (Epoxy meets UL94, V0)
footprint TO-220 AB (Epoxy meets UL94, V0)
footprint TO-220 AB S (Epoxy meets UL94, V0)
footprint TO-220 AB WITH HEAT SINK ASM
footprint TO-220 AB with heatsink ya25 (Epoxy meets UL94, V0-Design:Abbas Basereh)
pins: 1 B, 2 C, 3 E

## TIP42C
designator Q?  (value not drawn)
PNP  power transistor; Manufacturer: STMicroelectronics; Designer: Abbas Basereh; DESC.: Complementary power transistors; Link: https://www.aliexpress.com/item/; Link: http://www.tme.eu/en/; Link: http://www.digikey.com/; Part. No: TIP42C
footprint TO-220 AB WITH HEAT SINK (Epoxy meets UL94, V0)
footprint TO-220 AB (Epoxy meets UL94, V0)
footprint TO-220 AB S (Epoxy meets UL94, V0)
footprint TO-220 AB WITH HEAT SINK ASM
footprint TO-220 AB with heatsink ya25 (Epoxy meets UL94, V0-Design:Abbas Basereh)
pins: 1 B, 2 C, 3 E